# Altium schematic symbol library Electromagnetic Op-Amp Board.SchLib: 2 symbols
Pins are listed as number, name and electrical type; pins without a type are passive.

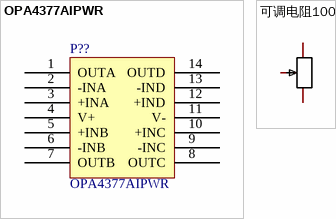
[diagram p0: symbols OPA4377AIPWR to 可调电阻100k]

## OPA4377AIPWR
designator P??
Header, 7-Pin, Dual row; LatestRevisionDate: 17-Jul-2002; LatestRevisionNote: Re-released for DXP Platform.; Publisher: Altium Limited
signal-integrity model Connector
pins: 1 OUTA, 2 -INA, 3 +INA, 4 V+, 5 +INB, 6 -INB, 7 OUTB, 8 OUTC, 9 -INC, 10 +INC, 11 V-, 12 +IND, 13 -IND, 14 OUTD

## 可调电阻100k
designator R??  (value not drawn)
Manufacturer: BOURNS; Name: 100kΩ; Symbol: 3296W-1-104LF; Add into BOM: yes; Value: 100kΩ; Tolerance: ±10%; Device: 3296W-1-104LF; LCSC Part Name: 100kΩ ±10%; Supplier Part: C48084; Manufacturer Part: 3296W-1-104LF; Supplier Footprint: 插件; JLCPCB Part Class: Extended Part; Datasheet: https://atta.szlcsc.com/upload/public/pdf/source/20150811/1457707339453.pdf; Supplier: LCSC; Convert to PCB: yes
3D model RES-ADJ-TH_3296W
pins: 1, 2, 3